# Altium integrated library Linear Technology Power Management LED Driver ICs.IntLib: 490 symbols (part 46 of 48)
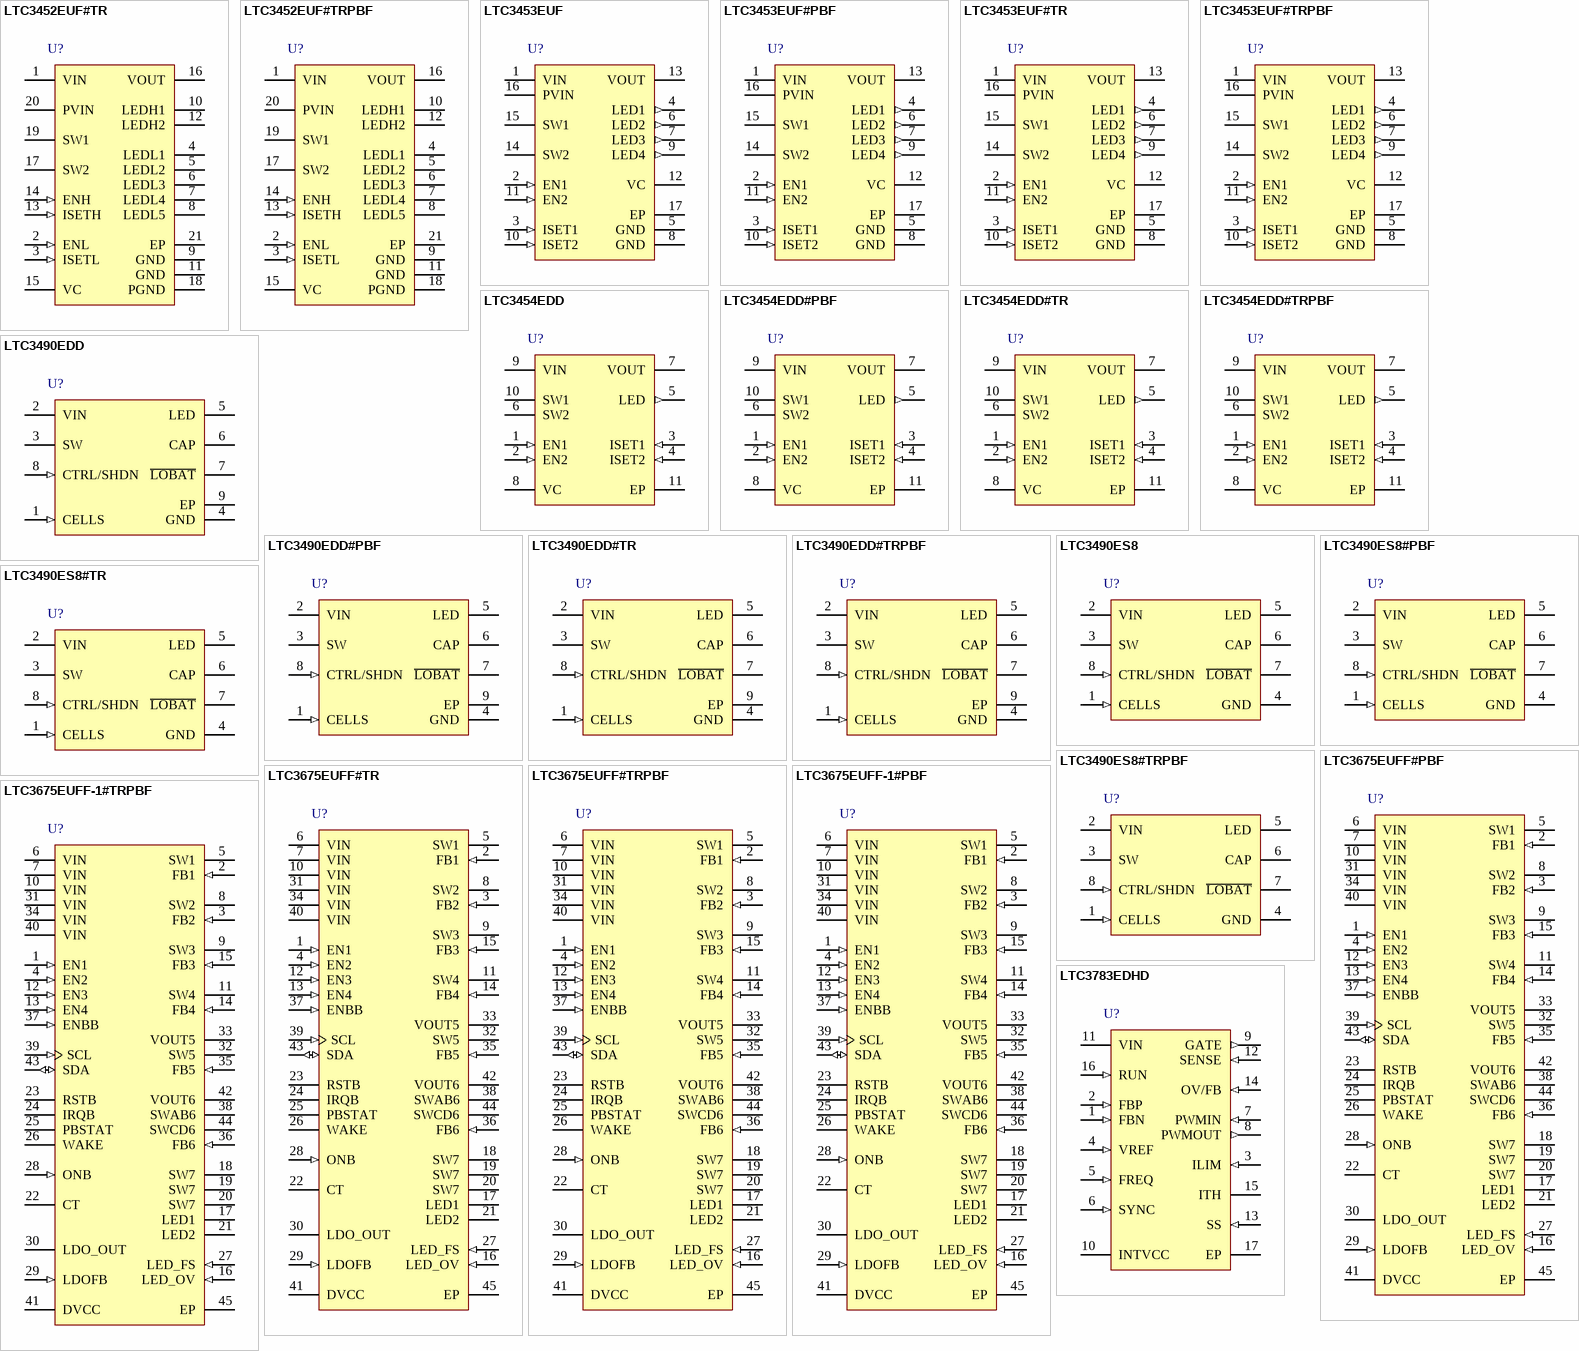
[diagram p65: symbols LTC3452EUF#TR to LTC3783EDHD]

## LTC3452EUF#TR
designator U?
Synchronous Buck-Boost MAIN / CAMERA White LED Driver, 2.7 to 5.5 V Vin, 4.5 V Vout MAX, 20-pin QFN (UF-20), -40 to 85 degC, Tape and Reel; Manufacturer: Linear Technology; PartNumber: LTC3452EUF#TR; Topology: Buck-Boost, LED Driver; Vin Min(V): 2.7; PackageVersion: Rev. A, 10/2010; PackageReference: UF20; PackageDescription: 20-Pin Plastic QFN, Body 4 x 4 mm, Pitch 0.5 mm; Packing: Tape and Reel; RoHS: FALSE; Mounting Technology: Surface Mount; Code_JEDEC: MO-220; ComponentLink1Description: Manufacturer URL; ComponentLink1URL: http://www.linear.com/; ComponentLink2Description: Datasheet; ComponentLink2URL: http://cds.linear.com/docs/en/datasheet/3452f.pdf; ComponentLink3Description: Package Specification; ComponentLink3URL: http://cds.linear.com/docs/en/packaging/QFN_20_05-08-1710.pdf
footprint LT-UF-20_N (QFN, 20-Leads, Body 4.1x4.1mm, Pitch 0.5mm, Thermal Pad 2.45x2.45mm, IPC Medium Density)
footprint LT-UF-20_L (QFN, 20-Leads, Body 4.1x4.1mm, Pitch 0.5mm, Thermal Pad 2.45x2.45mm, IPC High Density)
footprint LT-UF-20_M (QFN, 20-Leads, Body 4.1x4.1mm, Pitch 0.5mm, Thermal Pad 2.45x2.45mm, IPC Low Density)
pins: 1 VIN (power) "Signal Voltage Input Supply Pin (2.7V =< VIN =< 5.5V). Recommended bypass capacitor to GND is 2.2uF ceramic or larger. Connect to PVIN (Pin 20).", 2 ENL (in) "Enable Input Pin and PWM Brightness Control for Low Power LED Bank. Active high. For constant IMAXL operation, connect the ENL pin to VIN (or any voltage >1.2V). For ENL voltage <0.2V, all low power bank LED current source (See Datasheet)", 3 ISETL (in) "Low Power LED Bank Current Programming Pin. A resistor to ground programs each low power bank current source output maximum to ILEDLx|MAX = 256 • (0.8V/RISETL). Enabled by ENL (Pin 2). PWM brightness control also via ENL.", 4 LEDL1 (hiz) "Individual Low Dropout Current Source Output for Low Power LED Bank Current Biasing. Connect each low power LED between VOUT and an individual LEDLx pin. Unused LEDLx outputs should be connected to VOUT.", 5 LEDL2 (hiz) "Individual Low Dropout Current Source Output for Low Power LED Bank Current Biasing. Connect each low power LED between VOUT and an individual LEDLx pin. Unused LEDLx outputs should be connected to VOUT.", 6 LEDL3 (hiz) "Individual Low Dropout Current Source Output for Low Power LED Bank Current Biasing. Connect each low power LED between VOUT and an individual LEDLx pin. Unused LEDLx outputs should be connected to VOUT.", 7 LEDL4 (hiz) "Individual Low Dropout Current Source Output for Low Power LED Bank Current Biasing. Connect each low power LED between VOUT and an individual LEDLx pin. Unused LEDLx outputs should be connected to VOUT.", 8 LEDL5 (hiz) "Individual Low Dropout Current Source Output for Low Power LED Bank Current Biasing. Connect each low power LED between VOUT and an individual LEDLx pin. Unused LEDLx outputs should be connected to VOUT.", 9 GND (power) "Signal Ground Pin. Connect together and to PGND (Pin 18) and Exposed Pad ground (Pin 21).", 10 LEDH1 (hiz) "Individual Low Dropout Current Source Outputs for High Power LED Bank Current Biasing. Connect each high power LED between VOUT and an individual LEDHx pin. Unused LEDHx outputs should be connected to VOUT.", 11 GND (power) "Signal Ground Pin. Connect together and to PGND (Pin 18) and Exposed Pad ground (Pin 21).", 12 LEDH2 (hiz) "Individual Low Dropout Current Source Outputs for High Power LED Bank Current Biasing. Connect each high power LED between VOUT and an individual LEDHx pin. Unused LEDHx outputs should be connected to VOUT.", 13 ISETH (in) "High Power LED Bank Current Programming Pin. A resistor to ground programs each high power bank current source output to ILEDHx = 768(0.8V/RISETH). Enabled by ENH (Pin 14).", 14 ENH (in) "Enable Input Pin for High Power LED Bank. Active high. The ENH pin is high impedance and should not be floated.", 15 VC "Compensation Point for the Internal Error Amplifier Output. Recommended compensation capacitor to GND is 0.1uF ceramic or larger.", 16 VOUT (power) "Buck-Boost Output Pin. Recommended bypass capacitor to GND is 4.7uF ceramic.", 17 SW2 "Switching Node Pin. Connected to internal power switches C and D. External inductor connects between SW1 and SW2. Recommended value is 4.7uH.", 18 PGND (power) "Power Ground Pin. Connect to GND (Pins 9 and 11).", 19 SW1 "Switching Node Pin. Connected to internal power switches A and B. External inductor connects between SW1 and SW2. Recommended value is 4.7uH.", 20 PVIN (power) "Power Voltage Input Supply Pin. Connect to VIN (Pin 1).", 21 EP (power) "Heat Sink Ground. Connect to GND (Pins 9 and 11) and solder to PCB ground for electrical contact and rated thermal performance."

## LTC3452EUF#TRPBF
designator U?
Synchronous Buck-Boost MAIN / CAMERA White LED Driver, 2.7 to 5.5 V Vin, 4.5 V Vout MAX, 20-pin QFN (UF-20), -40 to 85 degC, Pb-Free, Tape and Reel; Manufacturer: Linear Technology; PartNumber: LTC3452EUF#TRPBF; Topology: Buck-Boost, LED Driver; Vin Min(V): 2.7; PackageVersion: Rev. A, 10/2010; PackageReference: UF20; PackageDescription: 20-Pin Plastic QFN, Body 4 x 4 mm, Pitch 0.5 mm; Supplier 1: Digi-Key; Supplier Part Number 1: LTC3452EUF#TRPBF-ND; Packing: Tape and Reel; RoHS: TRUE; Mounting Technology: Surface Mount; Code_JEDEC: MO-220; ComponentLink1Description: Manufacturer URL; ComponentLink1URL: http://www.linear.com/; ComponentLink2Description: Datasheet; ComponentLink2URL: http://cds.linear.com/docs/en/datasheet/3452f.pdf; ComponentLink3Description: Package Specification; ComponentLink3URL: http://cds.linear.com/docs/en/packaging/QFN_20_05-08-1710.pdf
footprint LT-UF-20_N (QFN, 20-Leads, Body 4.1x4.1mm, Pitch 0.5mm, Thermal Pad 2.45x2.45mm, IPC Medium Density)
footprint LT-UF-20_L (QFN, 20-Leads, Body 4.1x4.1mm, Pitch 0.5mm, Thermal Pad 2.45x2.45mm, IPC High Density)
footprint LT-UF-20_M (QFN, 20-Leads, Body 4.1x4.1mm, Pitch 0.5mm, Thermal Pad 2.45x2.45mm, IPC Low Density)
pins: 1 VIN (power) "Signal Voltage Input Supply Pin (2.7V =< VIN =< 5.5V). Recommended bypass capacitor to GND is 2.2uF ceramic or larger. Connect to PVIN (Pin 20).", 2 ENL (in) "Enable Input Pin and PWM Brightness Control for Low Power LED Bank. Active high. For constant IMAXL operation, connect the ENL pin to VIN (or any voltage >1.2V). For ENL voltage <0.2V, all low power bank LED current source (See Datasheet)", 3 ISETL (in) "Low Power LED Bank Current Programming Pin. A resistor to ground programs each low power bank current source output maximum to ILEDLx|MAX = 256 • (0.8V/RISETL). Enabled by ENL (Pin 2). PWM brightness control also via ENL.", 4 LEDL1 (hiz) "Individual Low Dropout Current Source Output for Low Power LED Bank Current Biasing. Connect each low power LED between VOUT and an individual LEDLx pin. Unused LEDLx outputs should be connected to VOUT.", 5 LEDL2 (hiz) "Individual Low Dropout Current Source Output for Low Power LED Bank Current Biasing. Connect each low power LED between VOUT and an individual LEDLx pin. Unused LEDLx outputs should be connected to VOUT.", 6 LEDL3 (hiz) "Individual Low Dropout Current Source Output for Low Power LED Bank Current Biasing. Connect each low power LED between VOUT and an individual LEDLx pin. Unused LEDLx outputs should be connected to VOUT.", 7 LEDL4 (hiz) "Individual Low Dropout Current Source Output for Low Power LED Bank Current Biasing. Connect each low power LED between VOUT and an individual LEDLx pin. Unused LEDLx outputs should be connected to VOUT.", 8 LEDL5 (hiz) "Individual Low Dropout Current Source Output for Low Power LED Bank Current Biasing. Connect each low power LED between VOUT and an individual LEDLx pin. Unused LEDLx outputs should be connected to VOUT.", 9 GND (power) "Signal Ground Pin. Connect together and to PGND (Pin 18) and Exposed Pad ground (Pin 21).", 10 LEDH1 (hiz) "Individual Low Dropout Current Source Outputs for High Power LED Bank Current Biasing. Connect each high power LED between VOUT and an individual LEDHx pin. Unused LEDHx outputs should be connected to VOUT.", 11 GND (power) "Signal Ground Pin. Connect together and to PGND (Pin 18) and Exposed Pad ground (Pin 21).", 12 LEDH2 (hiz) "Individual Low Dropout Current Source Outputs for High Power LED Bank Current Biasing. Connect each high power LED between VOUT and an individual LEDHx pin. Unused LEDHx outputs should be connected to VOUT.", 13 ISETH (in) "High Power LED Bank Current Programming Pin. A resistor to ground programs each high power bank current source output to ILEDHx = 768(0.8V/RISETH). Enabled by ENH (Pin 14).", 14 ENH (in) "Enable Input Pin for High Power LED Bank. Active high. The ENH pin is high impedance and should not be floated.", 15 VC "Compensation Point for the Internal Error Amplifier Output. Recommended compensation capacitor to GND is 0.1uF ceramic or larger.", 16 VOUT (power) "Buck-Boost Output Pin. Recommended bypass capacitor to GND is 4.7uF ceramic.", 17 SW2 "Switching Node Pin. Connected to internal power switches C and D. External inductor connects between SW1 and SW2. Recommended value is 4.7uH.", 18 PGND (power) "Power Ground Pin. Connect to GND (Pins 9 and 11).", 19 SW1 "Switching Node Pin. Connected to internal power switches A and B. External inductor connects between SW1 and SW2. Recommended value is 4.7uH.", 20 PVIN (power) "Power Voltage Input Supply Pin. Connect to VIN (Pin 1).", 21 EP (power) "Heat Sink Ground. Connect to GND (Pins 9 and 11) and solder to PCB ground for electrical contact and rated thermal performance."

## LTC3453EUF
designator U?
90% Efficiency, Li-Ion Battery, Open / Short LED Protection, Soft-Start, 2.7 to 5.5 V Vin, 4.5 V Vout MAX, 16-pin QFN (UF-16), -40 to 85 degC; Manufacturer: Linear Technology; PartNumber: LTC3453EUF; Topology: Buck-Boost, LED Driver; Vin Min(V): 2.7; DatasheetVersion: Rev. A; PackageVersion: Jun-10; PackageReference: UF-16; PackageDescription: 16-Pin Plastic QFN, Body 4 x 4 mm, Pitch 0.65 mm; RoHS: FALSE; Mounting Technology: Surface Mount; Code_JEDEC: MO-220; ComponentLink1Description: Manufacturer URL; ComponentLink1URL: http://www.linear.com/; ComponentLink2Description: Datasheet; ComponentLink2URL: http://cds.linear.com/docs/en/datasheet/3453fa.pdf; ComponentLink3Description: Package Specification; ComponentLink3URL: http://cds.linear.com/docs/en/packaging/QFN_16_05-08-1692.pdf
footprint LT-UF-16_N (QFN, 16-Leads, Body 4.1x4.1mm, Pitch 0.65mm, Thermal Pad 2.15x2.15mm, IPC Medium Density)
footprint LT-UF-16_L (QFN, 16-Leads, Body 4.1x4.1mm, Pitch 0.65mm, Thermal Pad 2.15x2.15mm, IPC High Density)
footprint LT-UF-16_M (QFN, 16-Leads, Body 4.1x4.1mm, Pitch 0.65mm, Thermal Pad 2.15x2.15mm, IPC Low Density)
pins: 1 VIN (power) "Signal Voltage Input Supply Pin [2.7V <= VIN <= 5.5 V]. Recommended bypass capacitor to GND is 2.2 uF ceramic or larger. Connect to PVIN (Pin 16).", 2 EN1 (in) "Enable Input Pin for ISET1 Current.", 3 ISET1 (in) "White Led Current Programming Pin. A resistor to ground program each current source output to ILED = 384(0.8 V/R ISET1 ). This amount of current adds to any amount set by EN2 / ISET2 if also used.", 4 LED1 (out) "Individual Low Dropout Current Source Output for White LED Current Biasing. Connect each white LED between VOUT and an individual LEDx pin. Unused LEDx outputs should be connected to VOUT.", 5 GND (power) "Signal Ground Pin. Connect to PGND (Exposed Pad).", 6 LED2 (out) "Individual Low Dropout Current Source Output for White LED Current Biasing. Connect each white LED between VOUT and an individual LEDx pin. Unused LEDx outputs should be connected to VOUT.", 7 LED3 (out) "Individual Low Dropout Current Source Output for White LED Current Biasing. Connect each white LED between VOUT and an individual LEDx pin. Unused LEDx outputs should be connected to VOUT.", 8 GND (power) "Signal Ground Pin. Connect to PGND (Exposed Pad).", 9 LED4 (out) "Individual Low Dropout Current Source Outputs for White LED Current Biasing. Connect each white LED between VOUT and an individual LEDx pin. Unused LEDx outputs should be connected to VOUT.", 10 ISET2 (in) "White Led Current Programming Pin. A resistor to ground program each current source output to ILED = 384(0.8 V / RISET2 ). This amount of current adds to any amount set by EN1 / ISET1 if also used.", 11 EN2 (in) "Enable Input Pin for ISET2 Current.", 12 VC "Compensation Point for the Internal Error Amplifier Output. Recommended compensation capacitor to GND is 0.1 uF ceramic or larger.", 13 VOUT (power) "Buck-Boost Output Pin. Recommended bypass capacitor to GND is 4.7 uF ceramic.", 14 SW2 "Switching Node Pin. Connected to internal power switches C and D. External inductor connects between SW1 and SW2. Recommended value is 4.7 uH.", 15 SW1 "Switching Node Pin. Connected to internal power switches A and B. External inductor connects between SW1 and SW2. Recommended value is 4.7 uH.", 16 PVIN (power) "Power Voltage Input Supply Pin. Connect to VIN (Pin 1).", 17 EP (power) "Power Ground Pin. Connect to GND (Pin 8) and solder to PCB ground for optimum thermal performance."

## LTC3453EUF#PBF
designator U?
90% Efficiency, Li-Ion Battery, Open / Short LED Protection, Soft-Start, 2.7 to 5.5 V Vin, 4.5 V Vout MAX, 16-pin QFN (UF-16), -40 to 85 degC, Pb-Free; Manufacturer: Linear Technology; PartNumber: LTC3453EUF#PBF; Topology: Buck-Boost, LED Driver; Vin Min(V): 2.7; DatasheetVersion: Rev. A; PackageVersion: Jun-10; PackageReference: UF-16; PackageDescription: 16-Pin Plastic QFN, Body 4 x 4 mm, Pitch 0.65 mm; Supplier 1: Digi-Key; Supplier Part Number 1: LTC3453EUF#PBF-ND; Supplier 2: Farnell; Supplier Part Number 2: 1226283; Supplier 3: Newark; Supplier Part Number 3: 56M7843; RoHS: TRUE; Mounting Technology: Surface Mount; Code_JEDEC: MO-220; ComponentLink1Description: Manufacturer URL; ComponentLink1URL: http://www.linear.com/; ComponentLink2Description: Datasheet; ComponentLink2URL: http://cds.linear.com/docs/en/datasheet/3453fa.pdf; ComponentLink3Description: Package Specification; ComponentLink3URL: http://cds.linear.com/docs/en/packaging/QFN_16_05-08-1692.pdf
footprint LT-UF-16_N (QFN, 16-Leads, Body 4.1x4.1mm, Pitch 0.65mm, Thermal Pad 2.15x2.15mm, IPC Medium Density)
footprint LT-UF-16_L (QFN, 16-Leads, Body 4.1x4.1mm, Pitch 0.65mm, Thermal Pad 2.15x2.15mm, IPC High Density)
footprint LT-UF-16_M (QFN, 16-Leads, Body 4.1x4.1mm, Pitch 0.65mm, Thermal Pad 2.15x2.15mm, IPC Low Density)
pins: 1 VIN (power) "Signal Voltage Input Supply Pin [2.7V <= VIN <= 5.5 V]. Recommended bypass capacitor to GND is 2.2 uF ceramic or larger. Connect to PVIN (Pin 16).", 2 EN1 (in) "Enable Input Pin for ISET1 Current.", 3 ISET1 (in) "White Led Current Programming Pin. A resistor to ground program each current source output to ILED = 384(0.8 V/R ISET1 ). This amount of current adds to any amount set by EN2 / ISET2 if also used.", 4 LED1 (out) "Individual Low Dropout Current Source Output for White LED Current Biasing. Connect each white LED between VOUT and an individual LEDx pin. Unused LEDx outputs should be connected to VOUT.", 5 GND (power) "Signal Ground Pin. Connect to PGND (Exposed Pad).", 6 LED2 (out) "Individual Low Dropout Current Source Output for White LED Current Biasing. Connect each white LED between VOUT and an individual LEDx pin. Unused LEDx outputs should be connected to VOUT.", 7 LED3 (out) "Individual Low Dropout Current Source Output for White LED Current Biasing. Connect each white LED between VOUT and an individual LEDx pin. Unused LEDx outputs should be connected to VOUT.", 8 GND (power) "Signal Ground Pin. Connect to PGND (Exposed Pad).", 9 LED4 (out) "Individual Low Dropout Current Source Outputs for White LED Current Biasing. Connect each white LED between VOUT and an individual LEDx pin. Unused LEDx outputs should be connected to VOUT.", 10 ISET2 (in) "White Led Current Programming Pin. A resistor to ground program each current source output to ILED = 384(0.8 V / RISET2 ). This amount of current adds to any amount set by EN1 / ISET1 if also used.", 11 EN2 (in) "Enable Input Pin for ISET2 Current.", 12 VC "Compensation Point for the Internal Error Amplifier Output. Recommended compensation capacitor to GND is 0.1 uF ceramic or larger.", 13 VOUT (power) "Buck-Boost Output Pin. Recommended bypass capacitor to GND is 4.7 uF ceramic.", 14 SW2 "Switching Node Pin. Connected to internal power switches C and D. External inductor connects between SW1 and SW2. Recommended value is 4.7 uH.", 15 SW1 "Switching Node Pin. Connected to internal power switches A and B. External inductor connects between SW1 and SW2. Recommended value is 4.7 uH.", 16 PVIN (power) "Power Voltage Input Supply Pin. Connect to VIN (Pin 1).", 17 EP (power) "Power Ground Pin. Connect to GND (Pin 8) and solder to PCB ground for optimum thermal performance."

## LTC3453EUF#TR
designator U?
90% Efficiency, Li-Ion Battery, Open / Short LED Protection, Soft-Start, 2.7 to 5.5 V Vin, 4.5 V Vout MAX, 16-pin QFN (UF-16), -40 to 85 degC, Tape and Reel; Manufacturer: Linear Technology; PartNumber: LTC3453EUF#TR; Topology: Buck-Boost, LED Driver; Vin Min(V): 2.7; DatasheetVersion: Rev. A; PackageVersion: Jun-10; PackageReference: UF-16; PackageDescription: 16-Pin Plastic QFN, Body 4 x 4 mm, Pitch 0.65 mm; Packing: Tape and Reel; RoHS: FALSE; Mounting Technology: Surface Mount; Code_JEDEC: MO-220; ComponentLink1Description: Manufacturer URL; ComponentLink1URL: http://www.linear.com/; ComponentLink2Description: Datasheet; ComponentLink2URL: http://cds.linear.com/docs/en/datasheet/3453fa.pdf; ComponentLink3Description: Package Specification; ComponentLink3URL: http://cds.linear.com/docs/en/packaging/QFN_16_05-08-1692.pdf
footprint LT-UF-16_N (QFN, 16-Leads, Body 4.1x4.1mm, Pitch 0.65mm, Thermal Pad 2.15x2.15mm, IPC Medium Density)
footprint LT-UF-16_L (QFN, 16-Leads, Body 4.1x4.1mm, Pitch 0.65mm, Thermal Pad 2.15x2.15mm, IPC High Density)
footprint LT-UF-16_M (QFN, 16-Leads, Body 4.1x4.1mm, Pitch 0.65mm, Thermal Pad 2.15x2.15mm, IPC Low Density)
pins: 1 VIN (power) "Signal Voltage Input Supply Pin [2.7V <= VIN <= 5.5 V]. Recommended bypass capacitor to GND is 2.2 uF ceramic or larger. Connect to PVIN (Pin 16).", 2 EN1 (in) "Enable Input Pin for ISET1 Current.", 3 ISET1 (in) "White Led Current Programming Pin. A resistor to ground program each current source output to ILED = 384(0.8 V/R ISET1 ). This amount of current adds to any amount set by EN2 / ISET2 if also used.", 4 LED1 (out) "Individual Low Dropout Current Source Output for White LED Current Biasing. Connect each white LED between VOUT and an individual LEDx pin. Unused LEDx outputs should be connected to VOUT.", 5 GND (power) "Signal Ground Pin. Connect to PGND (Exposed Pad).", 6 LED2 (out) "Individual Low Dropout Current Source Output for White LED Current Biasing. Connect each white LED between VOUT and an individual LEDx pin. Unused LEDx outputs should be connected to VOUT.", 7 LED3 (out) "Individual Low Dropout Current Source Output for White LED Current Biasing. Connect each white LED between VOUT and an individual LEDx pin. Unused LEDx outputs should be connected to VOUT.", 8 GND (power) "Signal Ground Pin. Connect to PGND (Exposed Pad).", 9 LED4 (out) "Individual Low Dropout Current Source Outputs for White LED Current Biasing. Connect each white LED between VOUT and an individual LEDx pin. Unused LEDx outputs should be connected to VOUT.", 10 ISET2 (in) "White Led Current Programming Pin. A resistor to ground program each current source output to ILED = 384(0.8 V / RISET2 ). This amount of current adds to any amount set by EN1 / ISET1 if also used.", 11 EN2 (in) "Enable Input Pin for ISET2 Current.", 12 VC "Compensation Point for the Internal Error Amplifier Output. Recommended compensation capacitor to GND is 0.1 uF ceramic or larger.", 13 VOUT (power) "Buck-Boost Output Pin. Recommended bypass capacitor to GND is 4.7 uF ceramic.", 14 SW2 "Switching Node Pin. Connected to internal power switches C and D. External inductor connects between SW1 and SW2. Recommended value is 4.7 uH.", 15 SW1 "Switching Node Pin. Connected to internal power switches A and B. External inductor connects between SW1 and SW2. Recommended value is 4.7 uH.", 16 PVIN (power) "Power Voltage Input Supply Pin. Connect to VIN (Pin 1).", 17 EP (power) "Power Ground Pin. Connect to GND (Pin 8) and solder to PCB ground for optimum thermal performance."

## LTC3453EUF#TRPBF
designator U?
90% Efficiency, Li-Ion Battery, Open / Short LED Protection, Soft-Start, 2.7 to 5.5 V Vin, 4.5 V Vout MAX, 16-pin QFN (UF-16), -40 to 85 degC, Pb-Free, Tape and Reel; Manufacturer: Linear Technology; PartNumber: LTC3453EUF#TRPBF; Topology: Buck-Boost, LED Driver; Vin Min(V): 2.7; DatasheetVersion: Rev. A; PackageVersion: Jun-10; PackageReference: UF-16; PackageDescription: 16-Pin Plastic QFN, Body 4 x 4 mm, Pitch 0.65 mm; Supplier 1: Digi-Key; Supplier Part Number 1: LTC3453EUF#TRPBF-ND; Packing: Tape and Reel; RoHS: TRUE; Mounting Technology: Surface Mount; Code_JEDEC: MO-220; ComponentLink1Description: Manufacturer URL; ComponentLink1URL: http://www.linear.com/; ComponentLink2Description: Datasheet; ComponentLink2URL: http://cds.linear.com/docs/en/datasheet/3453fa.pdf; ComponentLink3Description: Package Specification; ComponentLink3URL: http://cds.linear.com/docs/en/packaging/QFN_16_05-08-1692.pdf
footprint LT-UF-16_N (QFN, 16-Leads, Body 4.1x4.1mm, Pitch 0.65mm, Thermal Pad 2.15x2.15mm, IPC Medium Density)
footprint LT-UF-16_L (QFN, 16-Leads, Body 4.1x4.1mm, Pitch 0.65mm, Thermal Pad 2.15x2.15mm, IPC High Density)
footprint LT-UF-16_M (QFN, 16-Leads, Body 4.1x4.1mm, Pitch 0.65mm, Thermal Pad 2.15x2.15mm, IPC Low Density)
pins: 1 VIN (power) "Signal Voltage Input Supply Pin [2.7V <= VIN <= 5.5 V]. Recommended bypass capacitor to GND is 2.2 uF ceramic or larger. Connect to PVIN (Pin 16).", 2 EN1 (in) "Enable Input Pin for ISET1 Current.", 3 ISET1 (in) "White Led Current Programming Pin. A resistor to ground program each current source output to ILED = 384(0.8 V/R ISET1 ). This amount of current adds to any amount set by EN2 / ISET2 if also used.", 4 LED1 (out) "Individual Low Dropout Current Source Output for White LED Current Biasing. Connect each white LED between VOUT and an individual LEDx pin. Unused LEDx outputs should be connected to VOUT.", 5 GND (power) "Signal Ground Pin. Connect to PGND (Exposed Pad).", 6 LED2 (out) "Individual Low Dropout Current Source Output for White LED Current Biasing. Connect each white LED between VOUT and an individual LEDx pin. Unused LEDx outputs should be connected to VOUT.", 7 LED3 (out) "Individual Low Dropout Current Source Output for White LED Current Biasing. Connect each white LED between VOUT and an individual LEDx pin. Unused LEDx outputs should be connected to VOUT.", 8 GND (power) "Signal Ground Pin. Connect to PGND (Exposed Pad).", 9 LED4 (out) "Individual Low Dropout Current Source Outputs for White LED Current Biasing. Connect each white LED between VOUT and an individual LEDx pin. Unused LEDx outputs should be connected to VOUT.", 10 ISET2 (in) "White Led Current Programming Pin. A resistor to ground program each current source output to ILED = 384(0.8 V / RISET2 ). This amount of current adds to any amount set by EN1 / ISET1 if also used.", 11 EN2 (in) "Enable Input Pin for ISET2 Current.", 12 VC "Compensation Point for the Internal Error Amplifier Output. Recommended compensation capacitor to GND is 0.1 uF ceramic or larger.", 13 VOUT (power) "Buck-Boost Output Pin. Recommended bypass capacitor to GND is 4.7 uF ceramic.", 14 SW2 "Switching Node Pin. Connected to internal power switches C and D. External inductor connects between SW1 and SW2. Recommended value is 4.7 uH.", 15 SW1 "Switching Node Pin. Connected to internal power switches A and B. External inductor connects between SW1 and SW2. Recommended value is 4.7 uH.", 16 PVIN (power) "Power Voltage Input Supply Pin. Connect to VIN (Pin 1).", 17 EP (power) "Power Ground Pin. Connect to GND (Pin 8) and solder to PCB ground for optimum thermal performance."

## LTC3454EDD
designator U?
1 A Synchronous Buck-Boost High Current LED Driver, 2.7 to 5.5 V Vin, 5.15 V Vout MAX, 10-pin SON (DD-10), -40 to 85 degC; Manufacturer: Linear Technology; PartNumber: LTC3454EDD; Topology: Buck-Boost, LED Driver; Vin Min(V): 2.7; DatasheetVersion: Rev. A; PackageVersion: Rev. C, 06/2010; PackageReference: DD-10; PackageDescription: 10-Pin Plastic DFN, Body 3 x 3 mm, Pitch 0.5 mm; RoHS: FALSE; Mounting Technology: Surface Mount; Code_JEDEC: MO-229; ComponentLink1Description: Manufacturer URL; ComponentLink1URL: http://www.linear.com/; ComponentLink2Description: Datasheet; ComponentLink2URL: http://cds.linear.com/docs/en/datasheet/3454fa.pdf; ComponentLink3Description: Package Specification; ComponentLink3URL: http://cds.linear.com/docs/en/packaging/DFN_10_05-08-1699.pdf
footprint LT-DD-10_V (SON, 10-Leads, Body 3x3mm, Pitch 0.5mm, Thermal Pad 2.38x1.65mm)
pins: 1 EN1 (in) "Enable Input Pin for ISET1 Current.", 2 EN2 (in) "Enable Input Pin for ISET2 Current.", 3 ISET1 (in) "LED Current Programming Pin. A resistor to ground programs the current through the LED to ILED = 3850(0.8V/RISET1). This amount of current adds to any amount set by EN2/ISET2 if used.", 4 ISET2 (in) "LED Current Programming Pin. A resistor to ground programs the current through the LED to ILED = 3850(0.8V/RISET2). This amount of current adds to any amount set by EN1/ISET1 if used.", 5 LED (out) "Low Dropout Output for LED Current Biasing. Connect the LED between VOUT and the LED pin.", 6 SW2 "Switching Node. External inductor connects between SW1 and SW2. Recommended value is  4.7uH/5uH.", 7 VOUT (power) "Buck-Boost Output Rail. Bypass to GND with a ceramic capacitor. Recommended value is 10uF", 8 VC "Compensation Point for the Internal Error Ampli?er Output. Connect a ceramic capacitor from VC to GND. Recommended value is 0.1uF.", 9 VIN (power) "Voltage Input Supply Pin (2.7V =< VIN =< 5.5V).  Bypass to GND with a ceramic capacitor. Recommended value is 10uF.", 10 SW1 "Switching Node. External inductor connects between SW1 and SW2. Recommended value is 4.7uH/5uH.", 11 EP (power) "Ground Pin. Solder to PCB ground for electrical contact and optimal thermal performance."

## LTC3454EDD#PBF
designator U?
1 A Synchronous Buck-Boost High Current LED Driver, 2.7 to 5.5 V Vin, 5.15 V Vout MAX, 10-pin SON (DD-10), -40 to 85 degC, Pb-Free; Manufacturer: Linear Technology; PartNumber: LTC3454EDD#PBF; Topology: Buck-Boost, LED Driver; Vin Min(V): 2.7; DatasheetVersion: Rev. A; PackageVersion: Rev. C, 06/2010; PackageReference: DD-10; PackageDescription: 10-Pin Plastic DFN, Body 3 x 3 mm, Pitch 0.5 mm; Supplier 1: Digi-Key; Supplier Part Number 1: LTC3454EDD#PBF-ND; Supplier 2: Farnell; Supplier Part Number 2: 1226284; Supplier 3: Newark; Supplier Part Number 3: 56M7847; RoHS: TRUE; Mounting Technology: Surface Mount; Code_JEDEC: MO-229; ComponentLink1Description: Manufacturer URL; ComponentLink1URL: http://www.linear.com/; ComponentLink2Description: Datasheet; ComponentLink2URL: http://cds.linear.com/docs/en/datasheet/3454fa.pdf; ComponentLink3Description: Package Specification; ComponentLink3URL: http://cds.linear.com/docs/en/packaging/DFN_10_05-08-1699.pdf
footprint LT-DD-10_V (SON, 10-Leads, Body 3x3mm, Pitch 0.5mm, Thermal Pad 2.38x1.65mm)
pins: 1 EN1 (in) "Enable Input Pin for ISET1 Current.", 2 EN2 (in) "Enable Input Pin for ISET2 Current.", 3 ISET1 (in) "LED Current Programming Pin. A resistor to ground programs the current through the LED to ILED = 3850(0.8V/RISET1). This amount of current adds to any amount set by EN2/ISET2 if used.", 4 ISET2 (in) "LED Current Programming Pin. A resistor to ground programs the current through the LED to ILED = 3850(0.8V/RISET2). This amount of current adds to any amount set by EN1/ISET1 if used.", 5 LED (out) "Low Dropout Output for LED Current Biasing. Connect the LED between VOUT and the LED pin.", 6 SW2 "Switching Node. External inductor connects between SW1 and SW2. Recommended value is  4.7uH/5uH.", 7 VOUT (power) "Buck-Boost Output Rail. Bypass to GND with a ceramic capacitor. Recommended value is 10uF", 8 VC "Compensation Point for the Internal Error Ampli?er Output. Connect a ceramic capacitor from VC to GND. Recommended value is 0.1uF.", 9 VIN (power) "Voltage Input Supply Pin (2.7V =< VIN =< 5.5V).  Bypass to GND with a ceramic capacitor. Recommended value is 10uF.", 10 SW1 "Switching Node. External inductor connects between SW1 and SW2. Recommended value is 4.7uH/5uH.", 11 EP (power) "Ground Pin. Solder to PCB ground for electrical contact and optimal thermal performance."

## LTC3454EDD#TR
designator U?
1 A Synchronous Buck-Boost High Current LED Driver, 2.7 to 5.5 V Vin, 5.15 V Vout MAX, 10-pin SON (DD-10), -40 to 85 degC, Tape and Reel; Manufacturer: Linear Technology; PartNumber: LTC3454EDD#TR; Topology: Buck-Boost, LED Driver; Vin Min(V): 2.7; DatasheetVersion: Rev. A; PackageVersion: Rev. C, 06/2010; PackageReference: DD-10; PackageDescription: 10-Pin Plastic DFN, Body 3 x 3 mm, Pitch 0.5 mm; Packing: Tape and Reel; RoHS: FALSE; Mounting Technology: Surface Mount; Code_JEDEC: MO-229; ComponentLink1Description: Manufacturer URL; ComponentLink1URL: http://www.linear.com/; ComponentLink2Description: Datasheet; ComponentLink2URL: http://cds.linear.com/docs/en/datasheet/3454fa.pdf; ComponentLink3Description: Package Specification; ComponentLink3URL: http://cds.linear.com/docs/en/packaging/DFN_10_05-08-1699.pdf
footprint LT-DD-10_V (SON, 10-Leads, Body 3x3mm, Pitch 0.5mm, Thermal Pad 2.38x1.65mm)
pins: 1 EN1 (in) "Enable Input Pin for ISET1 Current.", 2 EN2 (in) "Enable Input Pin for ISET2 Current.", 3 ISET1 (in) "LED Current Programming Pin. A resistor to ground programs the current through the LED to ILED = 3850(0.8V/RISET1). This amount of current adds to any amount set by EN2/ISET2 if used.", 4 ISET2 (in) "LED Current Programming Pin. A resistor to ground programs the current through the LED to ILED = 3850(0.8V/RISET2). This amount of current adds to any amount set by EN1/ISET1 if used.", 5 LED (out) "Low Dropout Output for LED Current Biasing. Connect the LED between VOUT and the LED pin.", 6 SW2 "Switching Node. External inductor connects between SW1 and SW2. Recommended value is  4.7uH/5uH.", 7 VOUT (power) "Buck-Boost Output Rail. Bypass to GND with a ceramic capacitor. Recommended value is 10uF", 8 VC "Compensation Point for the Internal Error Ampli?er Output. Connect a ceramic capacitor from VC to GND. Recommended value is 0.1uF.", 9 VIN (power) "Voltage Input Supply Pin (2.7V =< VIN =< 5.5V).  Bypass to GND with a ceramic capacitor. Recommended value is 10uF.", 10 SW1 "Switching Node. External inductor connects between SW1 and SW2. Recommended value is 4.7uH/5uH.", 11 EP (power) "Ground Pin. Solder to PCB ground for electrical contact and optimal thermal performance."

## LTC3454EDD#TRPBF
designator U?
1 A Synchronous Buck-Boost High Current LED Driver, 2.7 to 5.5 V Vin, 5.15 V Vout MAX, 10-pin SON (DD-10), -40 to 85 degC, Pb-Free, Tape and Reel; Manufacturer: Linear Technology; PartNumber: LTC3454EDD#TRPBF; Topology: Buck-Boost, LED Driver; Vin Min(V): 2.7; DatasheetVersion: Rev. A; PackageVersion: Rev. C, 06/2010; PackageReference: DD-10; PackageDescription: 10-Pin Plastic DFN, Body 3 x 3 mm, Pitch 0.5 mm; Supplier 1: Digi-Key; Supplier Part Number 1: LTC3454EDD#TRPBF-ND; Supplier 2: Newark; Supplier Part Number 2: 56M7849; Packing: Tape and Reel; RoHS: TRUE; Mounting Technology: Surface Mount; Code_JEDEC: MO-229; ComponentLink1Description: Manufacturer URL; ComponentLink1URL: http://www.linear.com/; ComponentLink2Description: Datasheet; ComponentLink2URL: http://cds.linear.com/docs/en/datasheet/3454fa.pdf; ComponentLink3Description: Package Specification; ComponentLink3URL: http://cds.linear.com/docs/en/packaging/DFN_10_05-08-1699.pdf
footprint LT-DD-10_V (SON, 10-Leads, Body 3x3mm, Pitch 0.5mm, Thermal Pad 2.38x1.65mm)
pins: 1 EN1 (in) "Enable Input Pin for ISET1 Current.", 2 EN2 (in) "Enable Input Pin for ISET2 Current.", 3 ISET1 (in) "LED Current Programming Pin. A resistor to ground programs the current through the LED to ILED = 3850(0.8V/RISET1). This amount of current adds to any amount set by EN2/ISET2 if used.", 4 ISET2 (in) "LED Current Programming Pin. A resistor to ground programs the current through the LED to ILED = 3850(0.8V/RISET2). This amount of current adds to any amount set by EN1/ISET1 if used.", 5 LED (out) "Low Dropout Output for LED Current Biasing. Connect the LED between VOUT and the LED pin.", 6 SW2 "Switching Node. External inductor connects between SW1 and SW2. Recommended value is  4.7uH/5uH.", 7 VOUT (power) "Buck-Boost Output Rail. Bypass to GND with a ceramic capacitor. Recommended value is 10uF", 8 VC "Compensation Point for the Internal Error Ampli?er Output. Connect a ceramic capacitor from VC to GND. Recommended value is 0.1uF.", 9 VIN (power) "Voltage Input Supply Pin (2.7V =< VIN =< 5.5V).  Bypass to GND with a ceramic capacitor. Recommended value is 10uF.", 10 SW1 "Switching Node. External inductor connects between SW1 and SW2. Recommended value is 4.7uH/5uH.", 11 EP (power) "Ground Pin. Solder to PCB ground for electrical contact and optimal thermal performance."

## LTC3490EDD
designator U?
Single Cell 350 mA LED Driver, 1 to 3.2 V Vin, 4 V Vout MAX, 8-pin SON (DD-8), -40 to 85 degC; Manufacturer: Linear Technology; PartNumber: LTC3490EDD; Topology: Boost, LED Driver; Vin Min(V): 1; DatasheetVersion: Rev. A; PackageVersion: Jun-10; PackageReference: DD-8; PackageDescription: 8-Pin Plastic DFN, Body 3 x 3 mm, Pitch 0.5 mm; RoHS: FALSE; Mounting Technology: Surface Mount; Code_JEDEC: MO-229; ComponentLink1Description: Manufacturer URL; ComponentLink1URL: http://www.linear.com/; ComponentLink2Description: Datasheet; ComponentLink2URL: http://cds.linear.com/docs/en/datasheet/3490fa.pdf; ComponentLink3Description: Package Specification; ComponentLink3URL: http://cds.linear.com/docs/en/packaging/DFN_8_05-08-1698.pdf
footprint LT-DD-8_V (SON, 8-Leads, Body 3x3mm, Pitch 0.5mm, Thermal Pad 1.65x2.38 mm)
pins: 1 CELLS (in) "A logic input to set the low-battery and undervoltage shutdown thresholds. A logic low (tied to GND) will set the thresholds for 1 cell. A logic high (tied to VIN) will set the thresholds for 2 cells.", 2 VIN (power) "Supply Voltage.", 3 SW "Switch Input. Connect this pin to an external inductor from VIN.", 4 GND (power) "Circuit Ground.", 5 LED (power) "Output Drive Current to LED.", 6 CAP "Filter Capacitor. A 4.7uF low ESR capacitor should be tied to this pin.", 7 ~{LOBAT} (oc) "Low active, open-drain logic output indicating a low-battery condition.", 8 CTRL/SHDN (in) "Analog Control Voltage and Shutdown. When VIN ?0.2 < VCTRL < VIN ?0.9, the LED drive current varies according to the formula", 9 EP (power) "Ground. This pin must be soldered to the PCB to provide both electrical contact to ground and good thermal contact to the PCB."

## LTC3490EDD#PBF
designator U?
Single Cell 350 mA LED Driver, 1 to 3.2 V Vin, 4 V Vout MAX, 8-pin SON (DD-8), -40 to 85 degC, Pb-Free; Manufacturer: Linear Technology; PartNumber: LTC3490EDD#PBF; Topology: Boost, LED Driver; Vin Min(V): 1; DatasheetVersion: Rev. A; PackageVersion: Jun-10; PackageReference: DD-8; PackageDescription: 8-Pin Plastic DFN, Body 3 x 3 mm, Pitch 0.5 mm; Supplier 1: Digi-Key; Supplier Part Number 1: LTC3490EDD#PBF-ND; Supplier 2: Farnell; Supplier Part Number 2: 1866350; Supplier 3: Newark; Supplier Part Number 3: 56M7871; RoHS: TRUE; Mounting Technology: Surface Mount; Code_JEDEC: MO-229; ComponentLink1Description: Manufacturer URL; ComponentLink1URL: http://www.linear.com/; ComponentLink2Description: Datasheet; ComponentLink2URL: http://cds.linear.com/docs/en/datasheet/3490fa.pdf; ComponentLink3Description: Package Specification; ComponentLink3URL: http://cds.linear.com/docs/en/packaging/DFN_8_05-08-1698.pdf
footprint LT-DD-8_V (SON, 8-Leads, Body 3x3mm, Pitch 0.5mm, Thermal Pad 1.65x2.38 mm)
pins: 1 CELLS (in) "A logic input to set the low-battery and undervoltage shutdown thresholds. A logic low (tied to GND) will set the thresholds for 1 cell. A logic high (tied to VIN) will set the thresholds for 2 cells.", 2 VIN (power) "Supply Voltage.", 3 SW "Switch Input. Connect this pin to an external inductor from VIN.", 4 GND (power) "Circuit Ground.", 5 LED (power) "Output Drive Current to LED.", 6 CAP "Filter Capacitor. A 4.7uF low ESR capacitor should be tied to this pin.", 7 ~{LOBAT} (oc) "Low active, open-drain logic output indicating a low-battery condition.", 8 CTRL/SHDN (in) "Analog Control Voltage and Shutdown. When VIN ?0.2 < VCTRL < VIN ?0.9, the LED drive current varies according to the formula", 9 EP (power) "Ground. This pin must be soldered to the PCB to provide both electrical contact to ground and good thermal contact to the PCB."

## LTC3490EDD#TR
designator U?
Single Cell 350 mA LED Driver, 1 to 3.2 V Vin, 4 V Vout MAX, 8-pin SON (DD-8), -40 to 85 degC, Tape and Reel; Manufacturer: Linear Technology; PartNumber: LTC3490EDD#TR; Topology: Boost, LED Driver; Vin Min(V): 1; DatasheetVersion: Rev. A; PackageVersion: Jun-10; PackageReference: DD-8; PackageDescription: 8-Pin Plastic DFN, Body 3 x 3 mm, Pitch 0.5 mm; Packing: Tape and Reel; RoHS: FALSE; Mounting Technology: Surface Mount; Code_JEDEC: MO-229; ComponentLink1Description: Manufacturer URL; ComponentLink1URL: http://www.linear.com/; ComponentLink2Description: Datasheet; ComponentLink2URL: http://cds.linear.com/docs/en/datasheet/3490fa.pdf; ComponentLink3Description: Package Specification; ComponentLink3URL: http://cds.linear.com/docs/en/packaging/DFN_8_05-08-1698.pdf
footprint LT-DD-8_V (SON, 8-Leads, Body 3x3mm, Pitch 0.5mm, Thermal Pad 1.65x2.38 mm)
pins: 1 CELLS (in) "A logic input to set the low-battery and undervoltage shutdown thresholds. A logic low (tied to GND) will set the thresholds for 1 cell. A logic high (tied to VIN) will set the thresholds for 2 cells.", 2 VIN (power) "Supply Voltage.", 3 SW "Switch Input. Connect this pin to an external inductor from VIN.", 4 GND (power) "Circuit Ground.", 5 LED (power) "Output Drive Current to LED.", 6 CAP "Filter Capacitor. A 4.7uF low ESR capacitor should be tied to this pin.", 7 ~{LOBAT} (oc) "Low active, open-drain logic output indicating a low-battery condition.", 8 CTRL/SHDN (in) "Analog Control Voltage and Shutdown. When VIN ?0.2 < VCTRL < VIN ?0.9, the LED drive current varies according to the formula", 9 EP (power) "Ground. This pin must be soldered to the PCB to provide both electrical contact to ground and good thermal contact to the PCB."

## LTC3490EDD#TRPBF
designator U?
Single Cell 350 mA LED Driver, 1 to 3.2 V Vin, 4 V Vout MAX, 8-pin SON (DD-8), -40 to 85 degC, Pb-Free, Tape and Reel; Manufacturer: Linear Technology; PartNumber: LTC3490EDD#TRPBF; Topology: Boost, LED Driver; Vin Min(V): 1; DatasheetVersion: Rev. A; PackageVersion: Jun-10; PackageReference: DD-8; PackageDescription: 8-Pin Plastic DFN, Body 3 x 3 mm, Pitch 0.5 mm; Supplier 1: Digi-Key; Supplier Part Number 1: LTC3490EDD#TRPBF-ND; Packing: Tape and Reel; RoHS: TRUE; Mounting Technology: Surface Mount; Code_JEDEC: MO-229; ComponentLink1Description: Manufacturer URL; ComponentLink1URL: http://www.linear.com/; ComponentLink2Description: Datasheet; ComponentLink2URL: http://cds.linear.com/docs/en/datasheet/3490fa.pdf; ComponentLink3Description: Package Specification; ComponentLink3URL: http://cds.linear.com/docs/en/packaging/DFN_8_05-08-1698.pdf
footprint LT-DD-8_V (SON, 8-Leads, Body 3x3mm, Pitch 0.5mm, Thermal Pad 1.65x2.38 mm)
pins: 1 CELLS (in) "A logic input to set the low-battery and undervoltage shutdown thresholds. A logic low (tied to GND) will set the thresholds for 1 cell. A logic high (tied to VIN) will set the thresholds for 2 cells.", 2 VIN (power) "Supply Voltage.", 3 SW "Switch Input. Connect this pin to an external inductor from VIN.", 4 GND (power) "Circuit Ground.", 5 LED (power) "Output Drive Current to LED.", 6 CAP "Filter Capacitor. A 4.7uF low ESR capacitor should be tied to this pin.", 7 ~{LOBAT} (oc) "Low active, open-drain logic output indicating a low-battery condition.", 8 CTRL/SHDN (in) "Analog Control Voltage and Shutdown. When VIN ?0.2 < VCTRL < VIN ?0.9, the LED drive current varies according to the formula", 9 EP (power) "Ground. This pin must be soldered to the PCB to provide both electrical contact to ground and good thermal contact to the PCB."

## LTC3490ES8
designator U?
Single Cell 350 mA LED Driver, 1 to 3.2 V Vin, 4 V Vout MAX, 8-pin SOIC (S8-8), -40 to 85 degC; Manufacturer: Linear Technology; PartNumber: LTC3490ES8; Topology: Boost, LED Driver; Vin Min(V): 1; DatasheetVersion: Rev. A; PackageVersion: Rev. G, 03/2012; PackageReference: S8-8; PackageDescription: 8-Pin Plastic Small Outline (Narrow .150 Inch), Body 4.9 x 3.9 mm, Pitch 1.27 mm; RoHS: FALSE; Mounting Technology: Surface Mount; ComponentLink1Description: Manufacturer URL; ComponentLink1URL: http://www.linear.com/; ComponentLink2Description: Datasheet; ComponentLink2URL: http://cds.linear.com/docs/en/datasheet/3490fa.pdf; ComponentLink3Description: Package Specification; ComponentLink3URL: http://cds.linear.com/docs/en/packaging/05081610_G_SO8.pdf
footprint LT-S8-8_N (SOIC, 8-Leads, Body 5x4mm, Pitch 1.27mm, IPC Medium Density)
footprint LT-S8-8_L (SOIC, 8-Leads, Body 5x4mm, Pitch 1.27mm, IPC High Density)
footprint LT-S8-8_M (SOIC, 8-Leads, Body 5x4mm, Pitch 1.27mm, IPC Low Density)
pins: 1 CELLS (in) "A logic input to set the low-battery and undervoltage shutdown thresholds. A logic low (tied to GND) will set the thresholds for 1 cell. A logic high (tied to VIN) will set the thresholds for 2 cells.", 2 VIN (power) "Supply Voltage.", 3 SW "Switch Input. Connect this pin to an external inductor from VIN.", 4 GND (power) "Circuit Ground.", 5 LED (power) "Output Drive Current to LED.", 6 CAP "Filter Capacitor. A 4.7uF low ESR capacitor should be tied to this pin.", 7 ~{LOBAT} (oc) "Low active, open-drain logic output indicating a low-battery condition.", 8 CTRL/SHDN (in) "Analog Control Voltage and Shutdown. When VIN ?0.2 < VCTRL < VIN ?0.9, the LED drive current varies according to the formula"

## LTC3490ES8#PBF
designator U?
Single Cell 350 mA LED Driver, 1 to 3.2 V Vin, 4 V Vout MAX, 8-pin SOIC (S8-8), -40 to 85 degC, Pb-Free; Manufacturer: Linear Technology; PartNumber: LTC3490ES8#PBF; Topology: Boost, LED Driver; Vin Min(V): 1; DatasheetVersion: Rev. A; PackageVersion: Rev. G, 03/2012; PackageReference: S8-8; PackageDescription: 8-Pin Plastic Small Outline (Narrow .150 Inch), Body 4.9 x 3.9 mm, Pitch 1.27 mm; Supplier 1: Digi-Key; Supplier Part Number 1: LTC3490ES8#PBF-ND; Supplier 2: Newark; Supplier Part Number 2: 56M7875; RoHS: TRUE; Mounting Technology: Surface Mount; ComponentLink1Description: Manufacturer URL; ComponentLink1URL: http://www.linear.com/; ComponentLink2Description: Datasheet; ComponentLink2URL: http://cds.linear.com/docs/en/datasheet/3490fa.pdf; ComponentLink3Description: Package Specification; ComponentLink3URL: http://cds.linear.com/docs/en/packaging/05081610_G_SO8.pdf
footprint LT-S8-8_N (SOIC, 8-Leads, Body 5x4mm, Pitch 1.27mm, IPC Medium Density)
footprint LT-S8-8_L (SOIC, 8-Leads, Body 5x4mm, Pitch 1.27mm, IPC High Density)
footprint LT-S8-8_M (SOIC, 8-Leads, Body 5x4mm, Pitch 1.27mm, IPC Low Density)
pins: 1 CELLS (in) "A logic input to set the low-battery and undervoltage shutdown thresholds. A logic low (tied to GND) will set the thresholds for 1 cell. A logic high (tied to VIN) will set the thresholds for 2 cells.", 2 VIN (power) "Supply Voltage.", 3 SW "Switch Input. Connect this pin to an external inductor from VIN.", 4 GND (power) "Circuit Ground.", 5 LED (power) "Output Drive Current to LED.", 6 CAP "Filter Capacitor. A 4.7uF low ESR capacitor should be tied to this pin.", 7 ~{LOBAT} (oc) "Low active, open-drain logic output indicating a low-battery condition.", 8 CTRL/SHDN (in) "Analog Control Voltage and Shutdown. When VIN ?0.2 < VCTRL < VIN ?0.9, the LED drive current varies according to the formula"

## LTC3490ES8#TR
designator U?
Single Cell 350 mA LED Driver, 1 to 3.2 V Vin, 4 V Vout MAX, 8-pin SOIC (S8-8), -40 to 85 degC, Tape and Reel; Manufacturer: Linear Technology; PartNumber: LTC3490ES8#TR; Topology: Boost, LED Driver; Vin Min(V): 1; DatasheetVersion: Rev. A; PackageVersion: Rev. G, 03/2012; PackageReference: S8-8; PackageDescription: 8-Pin Plastic Small Outline (Narrow .150 Inch), Body 4.9 x 3.9 mm, Pitch 1.27 mm; Packing: Tape and Reel; RoHS: FALSE; Mounting Technology: Surface Mount; ComponentLink1Description: Manufacturer URL; ComponentLink1URL: http://www.linear.com/; ComponentLink2Description: Datasheet; ComponentLink2URL: http://cds.linear.com/docs/en/datasheet/3490fa.pdf; ComponentLink3Description: Package Specification; ComponentLink3URL: http://cds.linear.com/docs/en/packaging/05081610_G_SO8.pdf
footprint LT-S8-8_N (SOIC, 8-Leads, Body 5x4mm, Pitch 1.27mm, IPC Medium Density)
footprint LT-S8-8_L (SOIC, 8-Leads, Body 5x4mm, Pitch 1.27mm, IPC High Density)
footprint LT-S8-8_M (SOIC, 8-Leads, Body 5x4mm, Pitch 1.27mm, IPC Low Density)
pins: 1 CELLS (in) "A logic input to set the low-battery and undervoltage shutdown thresholds. A logic low (tied to GND) will set the thresholds for 1 cell. A logic high (tied to VIN) will set the thresholds for 2 cells.", 2 VIN (power) "Supply Voltage.", 3 SW "Switch Input. Connect this pin to an external inductor from VIN.", 4 GND (power) "Circuit Ground.", 5 LED (power) "Output Drive Current to LED.", 6 CAP "Filter Capacitor. A 4.7uF low ESR capacitor should be tied to this pin.", 7 ~{LOBAT} (oc) "Low active, open-drain logic output indicating a low-battery condition.", 8 CTRL/SHDN (in) "Analog Control Voltage and Shutdown. When VIN ?0.2 < VCTRL < VIN ?0.9, the LED drive current varies according to the formula"

## LTC3490ES8#TRPBF
designator U?
Single Cell 350 mA LED Driver, 1 to 3.2 V Vin, 4 V Vout MAX, 8-pin SOIC (S8-8), -40 to 85 degC, Pb-Free, Tape and Reel; Manufacturer: Linear Technology; PartNumber: LTC3490ES8#TRPBF; Topology: Boost, LED Driver; Vin Min(V): 1; DatasheetVersion: Rev. A; PackageVersion: Rev. G, 03/2012; PackageReference: S8-8; PackageDescription: 8-Pin Plastic Small Outline (Narrow .150 Inch), Body 4.9 x 3.9 mm, Pitch 1.27 mm; Supplier 1: Digi-Key; Supplier Part Number 1: LTC3490ES8#TRPBF-ND; Packing: Tape and Reel; RoHS: TRUE; Mounting Technology: Surface Mount; ComponentLink1Description: Manufacturer URL; ComponentLink1URL: http://www.linear.com/; ComponentLink2Description: Datasheet; ComponentLink2URL: http://cds.linear.com/docs/en/datasheet/3490fa.pdf; ComponentLink3Description: Package Specification; ComponentLink3URL: http://cds.linear.com/docs/en/packaging/05081610_G_SO8.pdf
footprint LT-S8-8_N (SOIC, 8-Leads, Body 5x4mm, Pitch 1.27mm, IPC Medium Density)
footprint LT-S8-8_L (SOIC, 8-Leads, Body 5x4mm, Pitch 1.27mm, IPC High Density)
footprint LT-S8-8_M (SOIC, 8-Leads, Body 5x4mm, Pitch 1.27mm, IPC Low Density)
pins: 1 CELLS (in) "A logic input to set the low-battery and undervoltage shutdown thresholds. A logic low (tied to GND) will set the thresholds for 1 cell. A logic high (tied to VIN) will set the thresholds for 2 cells.", 2 VIN (power) "Supply Voltage.", 3 SW "Switch Input. Connect this pin to an external inductor from VIN.", 4 GND (power) "Circuit Ground.", 5 LED (power) "Output Drive Current to LED.", 6 CAP "Filter Capacitor. A 4.7uF low ESR capacitor should be tied to this pin.", 7 ~{LOBAT} (oc) "Low active, open-drain logic output indicating a low-battery condition.", 8 CTRL/SHDN (in) "Analog Control Voltage and Shutdown. When VIN ?0.2 < VCTRL < VIN ?0.9, the LED drive current varies according to the formula"